# EAGLE library part MICRO_SD (library NR_connectors)
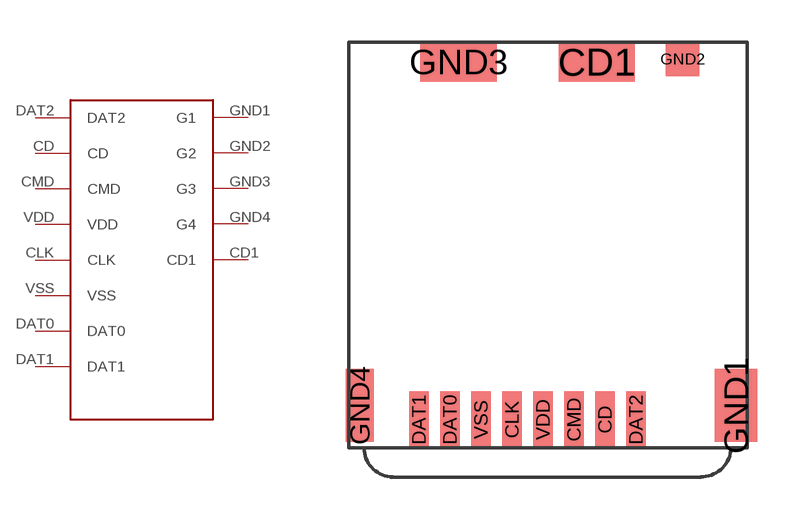
[diagram p2: symbol with the pads of MICRO_SD_HINGED; footprint MICRO_SD_HINGED]

Designator prefix -

## MICRO_SD  [MICRO_SD_HINGED]
CD  CD
CD1  CD1
CLK  CLK
CMD  CMD
DAT0  DAT0
DAT1  DAT1
DAT2  DAT2
GND1  G1
GND2  G2
GND3  G3
GND4  G4
VDD  VDD
VSS  VSS

## Footprint MICRO_SD_HINGED (pad centres in mm)
smd 0.7 x 2: CD -1.1,-13.4; CLK -4.4,-13.4; CMD -2.2,-13.4; DAT0 -6.6,-13.4; DAT1 -7.7,-13.4; DAT2 0,-13.4; VDD -3.3,-13.4; VSS -5.5,-13.4
smd 2.7 x 1.4: CD1 -1.4,-0.7; GND3 -6.3,-0.7
smd 1.5 x 2.6: GND1 3.55,-12.9
smd 1.2 x 1.2: GND2 1.65,-0.6
smd 1 x 2.6: GND4 -9.8,-12.9